# Altium schematic symbol library 1N4148.SchLib: 1 symbol
Pins are listed as number, name and electrical type; pins without a type are passive.

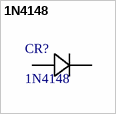
[diagram p0: symbol 1N4148]

## 1N4148
designator CR?
Description; Manufacturer_Name: onsemi; Copyright: Copyright (C) 2026 Ultra Librarian. All rights reserved.; Manufacturer_Part_Number: 1N4148
footprint AXIAL_017AG_T26_ONS
pins: 1, 2